# EAGLE library part SHT21 (library AloyseTech-IC)
SENSOR, HUMIDITY & TEMP
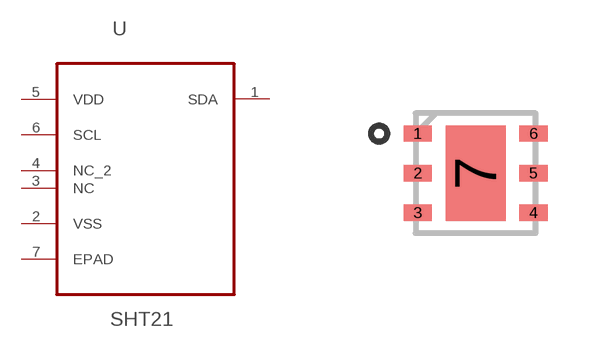
[diagram p1: symbol with the pads of DFN300X300X110-7N; footprint DFN300X300X110-7N]

Designator prefix U

## SHT21 (MPN: SHT21; OC_FARNELL: 1855468; OC_NEWARK: 20T1172; PACKAGE: DFN-6; SUPPLIER: SENSIRION)  [DFN300X300X110-7N]
1  SDA
2  VSS  pwr
3  NC  nc
4  NC_2  nc
5  VDD  pwr
6  SCL  in
7  EPAD  pas

## Footprint DFN300X300X110-7N (pad centres in mm)
smd 0.711 x 0.406: 1 -1.448,0.991; 2 -1.448,0; 3 -1.448,-0.991; 4 1.448,-0.991; 5 1.448,0; 6 1.448,0.991
smd 1.499 x 2.388: 7 0,0